# Altium schematic symbol library ECS-.327-CDX-1128.SchLib: 1 symbol
Pins are listed as number, name and electrical type; pins without a type are passive.

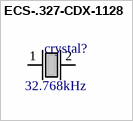
[diagram p0: symbol ECS-.327-CDX-1128]

## ECS-.327-CDX-1128
designator crystal?, comment value 32.768kHz  (hidden comment: SMD_Crystal)
footprint ECS-.327-CDX-1128
pins: 1, 2